# Altium footprint library Passive.PcbLib: 26 footprints (part 2 of 2)
Each footprint in its own frame and in the unit in brackets; x right, y up, seen from the top. Pads: shape width x height; smd on the part's side, far side on the other; paste and mask are expansions set on the pad; w line width, h text height; cw(c..) or ccw(c..) is an arc to the next point about the centre after c.
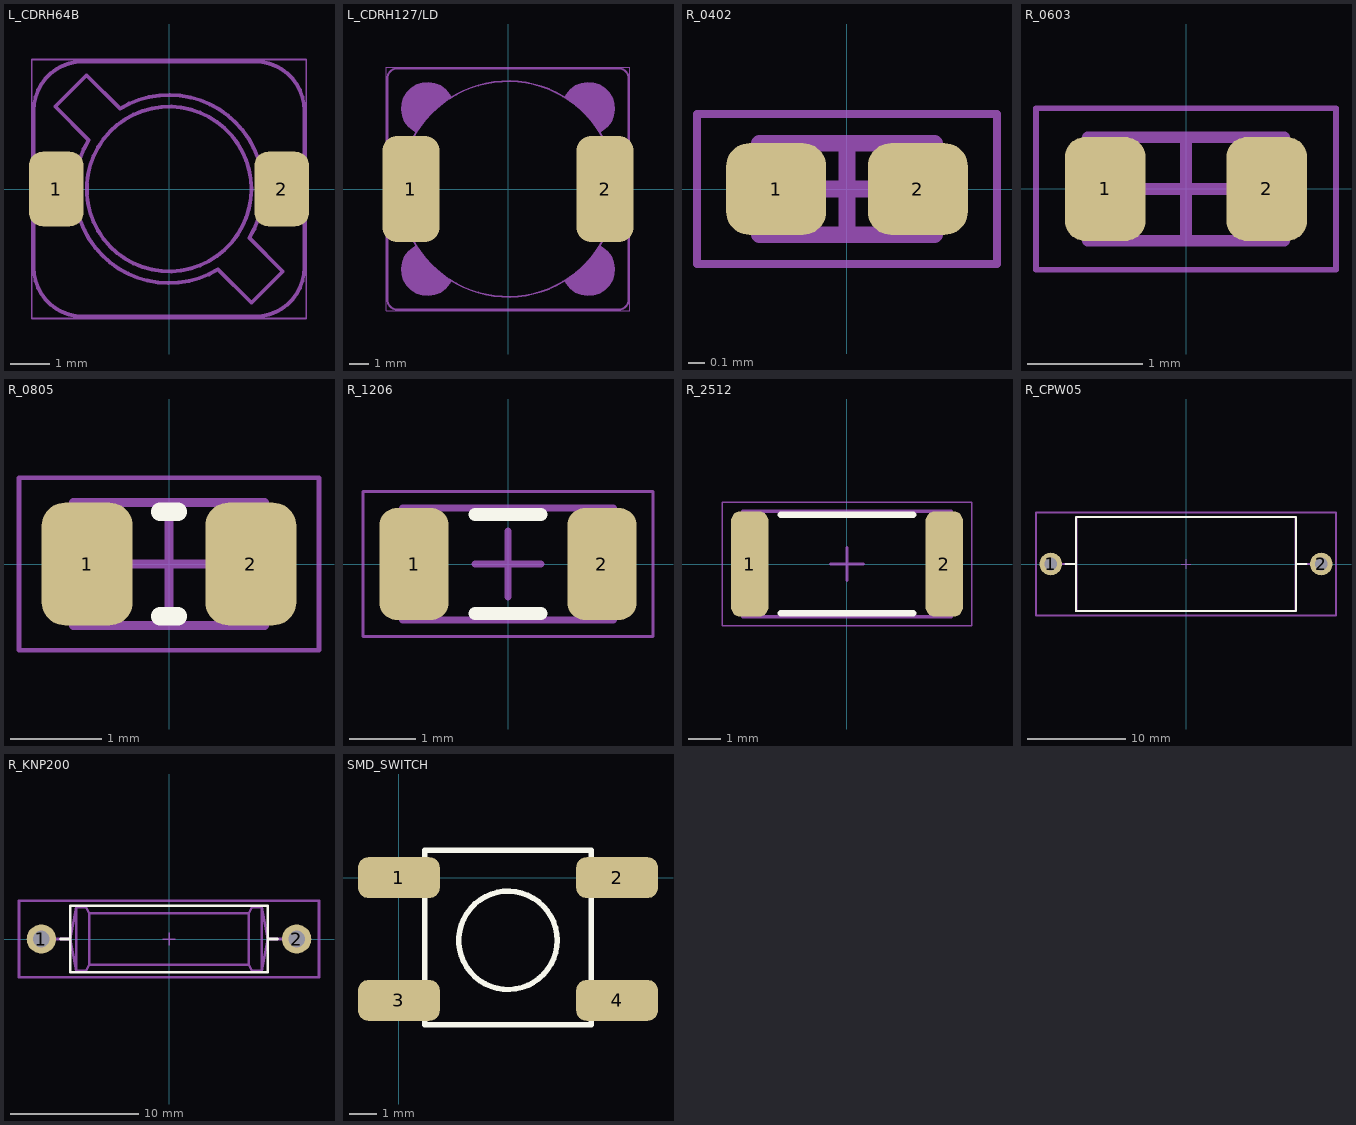
[diagram p1: the footprints below, top view; thin cyan lines are the x and y axes]

## L_CDRH64B [mm]
height 5
pads (2):
  rrect50% 1.4x1.9 smd: 1(-2.875,0) 2(2.875,0)
Mechanical 14:
  circle w0.1: c0,0 r2.1
  lines w0.1: -3.45,-2 ccw(c-2.2,-2) -2.2,-3.25 2.2,-3.25 ccw(c2.2,-2) 3.45,-2 3.45,2 ccw(c2.2,2) 2.2,3.25 -2.2,3.25 ccw(c-2.2,2) -3.45,2 -3.45,-2 ; -2.9,2.1 -2.05,1.25 ccw(c0,0) 1.25,-2.05 2.1,-2.9 2.9,-2.1 2.05,-1.25 ccw(c0,0) -1.25,2.05 -2.1,2.9 -2.9,2.1
Mechanical 15:
  lines w0.05: -3.5,-3.3 3.5,-3.3 3.5,3.3 -3.5,3.3 -3.5,-3.3

## L_CDRH127/LD [mm]
height 8
pads (2):
  rrect50% 2.9x5.4 smd: 1(-4.95,0) 2(4.95,0)
Mechanical 14:
  circle w0.1: c0,0 r5.5
  region: -4.702,2.897 -4.845,2.968 -5.089,3.174 -5.279,3.432 -5.402,3.727 -5.454,4.042 -5.429,4.361 -5.331,4.665 -5.164,4.938 -4.938,5.164 -4.665,5.331 -4.361,5.429 -4.042,5.454 -3.727,5.402 -3.432,5.279 -3.174,5.089 -2.968,4.845 -2.897,4.702 -3.166,4.525 -3.671,4.126 -4.126,3.671 -4.525,3.166
  region: -2.897,-4.702 -2.968,-4.845 -3.174,-5.089 -3.432,-5.279 -3.727,-5.402 -4.042,-5.454 -4.361,-5.429 -4.665,-5.331 -4.938,-5.164 -5.164,-4.938 -5.331,-4.665 -5.429,-4.361 -5.454,-4.042 -5.402,-3.727 -5.279,-3.432 -5.089,-3.174 -4.845,-2.968 -4.702,-2.897 -4.525,-3.166 -4.126,-3.671 -3.671,-4.126 -3.166,-4.525
  region: 4.702,-2.897 4.845,-2.968 5.089,-3.174 5.279,-3.432 5.402,-3.727 5.454,-4.042 5.429,-4.361 5.331,-4.665 5.164,-4.938 4.938,-5.164 4.665,-5.331 4.361,-5.429 4.042,-5.454 3.727,-5.402 3.432,-5.279 3.174,-5.089 2.968,-4.845 2.897,-4.702 3.166,-4.525 3.671,-4.126 4.126,-3.671 4.525,-3.166
  region: 2.897,4.702 2.968,4.845 3.174,5.089 3.432,5.279 3.727,5.402 4.042,5.454 4.361,5.429 4.665,5.331 4.938,5.164 5.164,4.938 5.331,4.665 5.429,4.361 5.454,4.042 5.402,3.727 5.279,3.432 5.089,3.174 4.845,2.968 4.702,2.897 4.525,3.166 4.126,3.671 3.671,4.126 3.166,4.525
  lines w0.1: -6.15,-5.65 ccw(c-5.65,-5.65) -5.65,-6.15 5.65,-6.15 ccw(c5.65,-5.65) 6.15,-5.65 6.15,5.65 ccw(c5.65,5.65) 5.65,6.15 -5.65,6.15 ccw(c-5.65,5.65) -6.15,5.65 -6.15,-5.65
Mechanical 15:
  lines w0.05: -6.2,-6.2 -6.2,6.2 6.2,6.2 6.2,-6.2 -6.2,-6.2

## R_0402 [mm] "Chip Resistor, 2-Leads, Body 1.00x0.50mm, IPC Medium Density"
height 0.4
pads (2):
  rrect50% 0.6x0.55 smd: 1(-0.425,0) 2(0.425,0)
Top Solder:
  region: -0.275,0.375 0.275,0.375 0.275,-0.375 -0.275,-0.375
Mechanical 14:
  lines w0.1: -0.525,-0.275 0.525,-0.275 0.525,0.275 -0.525,0.275 -0.525,-0.275
Mechanical 15:
  lines w0.05: -0.9,-0.45 0.9,-0.45 0.9,0.45 -0.9,0.45 -0.9,-0.45
  lines w0.1: -0.275,0 0.275,0 ; 0,-0.275 0,0.275
3D body "R_0402.step": height 0.4, standoff 0, extent -0.525,-0.275 0.525,0.275

## R_0603 [mm] "Chip Resistor, 2-Leads, Body 1.60x0.80mm, IPC Medium Density"
height 0.55
pads (2):
  rrect50% 0.7x0.9 smd: 1(-0.7,0) 2(0.7,0)
Mechanical 14:
  lines w0.1: -0.85,-0.45 -0.85,0.45 0.85,0.45 0.85,-0.45 -0.85,-0.45
Mechanical 15:
  lines w0.05: -1.3,-0.7 -1.3,0.7 1.3,0.7 1.3,-0.7 -1.3,-0.7
  lines w0.1: -0.45,0 0.45,0 ; 0,-0.45 0,0.45
3D body "R_0603.step": height 0.55, standoff 0, extent -0.85,-0.45 0.85,0.45

## R_0805 [mm] "Chip Resistor, 2-Leads, Body 2.00x1.25mm, IPC Medium Density"
height 0.6
pads (2):
  rrect50% 1x1.35 smd: 1(-0.9,0) 2(0.9,0)
Top Overlay:
  lines w0.2: -0.1,-0.575 0.1,-0.575 ; -0.1,0.575 0.1,0.575
Mechanical 14:
  lines w0.1: -1.05,-0.675 -1.05,0.675 1.05,0.675 1.05,-0.675 -1.05,-0.675
Mechanical 15:
  lines w0.05: -1.65,-0.95 -1.65,0.95 1.65,0.95 1.65,-0.95 -1.65,-0.95
  lines w0.1: -0.5,0 0.5,0 ; 0,-0.5 0,0.5
3D body "R_0805.step": height 0.6, standoff 0, extent -1.05,-0.675 1.05,0.675

## R_1206 [mm] "Chip Resistor, 2-Leads, Body 3.10x1.60mm, IPC Medium Density"
height 0.65
pads (2):
  rrect50% 1.05x1.7 smd: 1(-1.425,0) 2(1.425,0)
Top Overlay:
  lines w0.2: -0.5,-0.75 0.5,-0.75 ; -0.5,0.75 0.5,0.75
Mechanical 14:
  lines w0.1: -1.6,-0.85 -1.6,0.85 1.6,0.85 1.6,-0.85 -1.6,-0.85
Mechanical 15:
  lines w0.05: -2.2,-1.1 -2.2,1.1 2.2,1.1 2.2,-1.1 -2.2,-1.1
  lines w0.1: -0.5,0 0.5,0 ; 0,-0.5 0,0.5
3D body "R_1206.step": height 0.65, standoff 0, extent -1.6,-0.85 1.6,0.85

## R_2512 [mm] "Chip Resistor, 2-Leads, Body 6.35x3.10mm, IPC Medium Density"
height 0.65
pads (2):
  rrect50% 1.15x3.25 smd: 1(-3,0) 2(3,0)
Top Overlay:
  lines w0.2: -2.05,-1.525 2.05,-1.525 ; -2.05,1.525 2.05,1.525
Mechanical 14:
  lines w0.1: -3.225,-1.625 3.225,-1.625 3.225,1.625 -3.225,1.625 -3.225,-1.625
Mechanical 15:
  lines w0.05: -3.85,-1.9 3.85,-1.9 3.85,1.9 -3.85,1.9 -3.85,-1.9
  lines w0.1: -0.5,0 0.5,0 ; 0,-0.5 0,0.5
3D body "R_2512.step": height 0.65, standoff 0, extent -3.225,-1.625 3.225,1.625

## R_CPW05 [mm]
pads (2):
  round 2.3 / inner round 1.8 / far side round 2.3 hole 1.3: 1(-13.75,0) 2(13.75,0)
Top Overlay:
  lines w0.2: -12.25,0 -11.2,0 ; 11.2,0 12.25,0 ; -11.2,0 -11.2,4.75 -11.15,4.8 -9.4,4.8 11.2,4.8 11.2,-4.8 -9.4,-4.8 -11.18,-4.8 -11.2,-4.78 -11.2,0
Mechanical 14:
  lines w0.2: -13.75,0 -11.11,0 ; 11.11,0 13.75,0 ; -11.11,-4.76 -11.11,4.76 11.11,4.76 11.11,-4.76 -11.11,-4.76
Mechanical 15:
  lines w0.1: -0.5,0 0.5,0 ; 0,-0.5 0,0.5
  lines w0.2: -15.25,-5.25 -15.25,5.25 15.25,5.25 15.25,-5.25 -15.25,-5.25
3D body: height 8.73, standoff 0, extent -11.11,-4.76 11.11,4.76

## R_KNP200 [mm]
pads (2):
  round 2.3 / inner round 1.8 / far side round 2.3 hole 1.3: 1(-10,0) 2(10,0)
Top Overlay:
  lines w0.2: -8.5,0 -7.75,0 ; 7.75,0 8.5,0 ; -7.75,-2.6 -7.75,2.6 7.75,2.6 7.75,-2.6 -7.75,-2.6
Mechanical 14:
  lines w0.2: -10,0 -7.75,0 ; 10,0 7.75,0 ; -7.75,0 -7.25,-2.5 ; -7.75,0 -7.25,2.5 ; -7.25,-2.5 -7.25,2.5 ; -7.25,-2.5 -6.5,-2.5 -6.25,-2 ; -7.25,2.5 -6.5,2.5 -6.25,2 ; -6.25,-2 -6.25,2 ; -6.25,-2 6.25,-2 ; -6.25,2 6.25,2 ; 6.25,-2 6.25,2 ; 6.25,-2 6.5,-2.5 7.25,-2.5 ; 6.25,2 6.5,2.5 7.25,2.5 ; 7.25,-2.5 7.25,2.5 ; 7.25,-2.5 7.75,0 ; 7.25,2.5 7.75,0
Mechanical 15:
  lines w0.1: -0.5,0 0.5,0 ; 0,-0.5 0,0.5
  lines w0.2: -11.75,-3 11.75,-3 11.75,3 -11.75,3 -11.75,-3
3D body "KNP-200.STEP": height 6.25, standoff -2.5, extent -10.4,-2.5 10.4,2.5

## SMD_SWITCH [mm]
pads (4):
  rrect50% 3x1.5 smd: 1(0,0) 2(8,0) 3(0,-4.5) 4(8,-4.5)
Top Overlay:
  circle w0.2: c4,-2.3 r1.803
  lines w0.2: 0.95,-5.4 0.95,1 7.05,1 7.05,-5.4 0.95,-5.4
3D body "User Library-FSM4JSMATR - TE Connectivity - SPST 6mm Tactile Switch.STEP": height 4.97, standoff 0, extent -1,-5.2 9,0.8